# Altium schematic symbol library LM386MX-1_NOPB.Schlib: 1 symbol
Pins are listed as number, name and electrical type; pins without a type are passive.

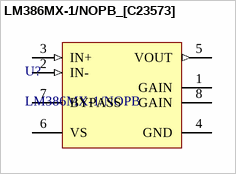
[diagram p0: symbol LM386MX-1/NOPB_[C23573]]

## LM386MX-1/NOPB_[C23573]
designator U?, comment LM386MX-1/NOPB
功放
footprint SOIC-8_150mil
pins: 1 GAIN, 2 IN- (in), 3 IN+ (in), 4 GND (power), 5 VOUT (out), 6 VS (power), 7 BYPASS, 8 GAIN